# Altium footprint library DO-214AB.PcbLib: 1 footprints
Each footprint in its own frame and in the unit in brackets; x right, y up, seen from the top. Pads: shape width x height; smd on the part's side, far side on the other; paste and mask are expansions set on the pad; w line width, h text height; cw(c..) or ccw(c..) is an arc to the next point about the centre after c.
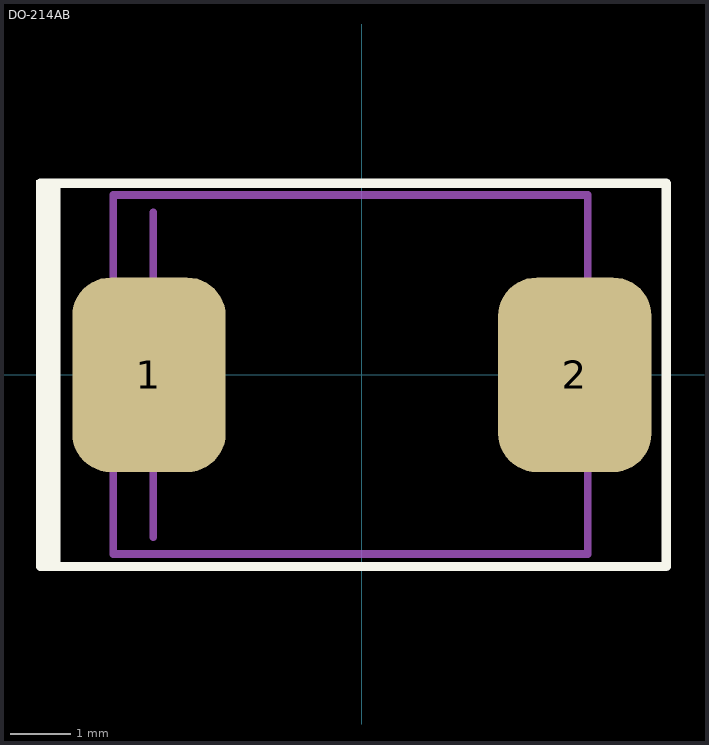
[diagram p0: the footprint, top view; thin cyan lines are the x and y axes]

## DO-214AB [mm] "DO-214AB;SMC"
pads (2):
  rrect50% 2.52x3.2 smd: 1(-3.5,0) 2(3.5,0)
Top Overlay:
  region: -4.953,3.2 -5.359,3.2 -5.359,-3.175 -4.953,-3.175
  lines w0.152: -5.283,-3.15 -3.581,-3.15 ; -5.283,3.15 -3.581,3.15 ; -3.6,-3.15 3.6,-3.15 ; -3.6,3.15 3.6,3.15 ; 3.581,3.15 5.004,3.15 5.004,-0.711 5.004,-3.15 3.607,-3.15
Top Assembly:
  lines w0.127: -3.429,-2.667 -3.429,2.667 ; -4.086,-2.946 3.714,-2.946 3.714,2.954 -4.086,2.954 -4.086,-2.946
3D body "User Library-DO-214AB-SMC.step": height 2.4, standoff -0.05, extent -4.086,-2.946 3.714,2.954